# Altium integrated library Gagabiro_POC_amp.IntLib: 23 symbols
Pins are listed as number, name and electrical type; pins without a type are passive.

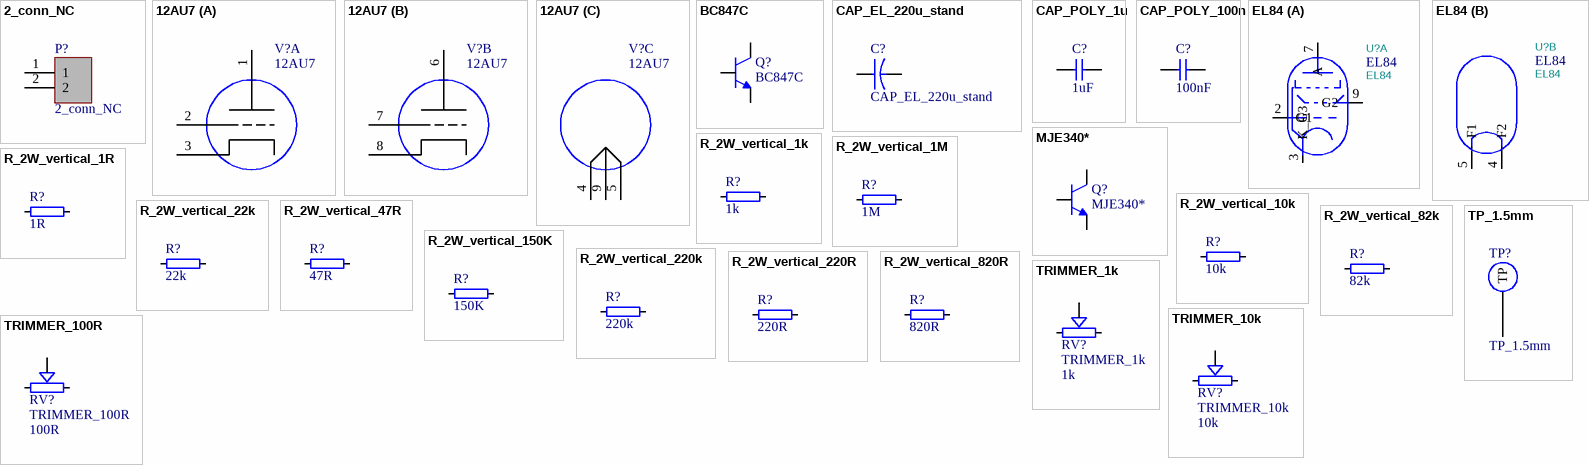
[diagram p0: symbols 2_conn_NC to TRIMMER_100R]

## 2_conn_NC
designator P?
Connector Header Surface Mount, Right Angle 2 position 0.079 (2.00mm); MP: S2B-PH-SM4-TB; MF: JST Sales; Price: None; Availability: In Stock; Package: None; Value: *; SnapEDA_Link: https://www.snapeda.com/parts/S2B-PH-SM4-TB/JST+Sales+America+Inc./view-part/?ref=snap; Purchase-URL: https://pricing.snapeda.com/search/part/S2B-PH-SM4-TB/?ref=eda; Check_prices: https://www.snapeda.com/parts/S2B-PH-SM4-TB/JST+Sales+America+Inc./view-part/?ref=eda
footprint 2_conn_NC
pins: 1, 2

## 12AU7
designator V?
TUNGSOL 12AU7 NEW PRD PREAMP TB; MF: RCA; MP: 12AX7; SnapEDA_Link: https://www.snapeda.com/parts/12AX7/RCA/view-part/?ref=snap; Package: None; Check_prices: https://www.snapeda.com/parts/12AX7/RCA/view-part/?ref=eda; Value: *
footprint 12A_7
part A pins: 1, 2, 3
part B pins: 6, 7, 8
part C pins: 4, 5, 9

## BC847C
designator Q?
Bipolar (BJT) Transistor NPN 45 V 100 mA 300MHz 250 mW Surface Mount SOT-23-3 (TO-236); MF: Diotec Semiconductor; Price: None; SnapEDA_Link: https://www.snapeda.com/parts/BC847C/Diotec/view-part/?ref=snap; Purchase-URL: https://pricing.snapeda.com/search/part/BC847C/?ref=eda; Availability: In Stock; MP: BC847C; Package: SOT-23-3 Diotec; Check_prices: https://www.snapeda.com/parts/BC847C/Diotec/view-part/?ref=eda; Value: *
footprint TRANS_BC847C
pins: 1 B, 2 E, 3 C

## CAP_EL_220u_stand
designator C?
220F 16V Aluminum Electrolytic Capacitors Radial, Can 1000 Hrs @ 105C; MP: EEU-HD1C221B; Value: 220uF; MF: Panasonic; Availability: In Stock; Purchase-URL: https://pricing.snapeda.com/search/part/EEU-HD1C221B/?ref=eda; Package: RADIAL-2 Panasonic; Check_prices: https://www.snapeda.com/parts/EEU-HD1C221B/Panasonic/view-part/?ref=eda; SnapEDA_Link: https://www.snapeda.com/parts/EEU-HD1C221B/Panasonic/view-part/?ref=snap; Price: None
footprint CAPPRD500W50D630H1120_stand
pins: N, P

## CAP_POLY_1u
designator C?, comment 1uF
Capacitor, Silver Mica; Part Number: CMICA_47PF; Value: 1uF
footprint CAP_panassonic_1u_450V
pins: 1, 2

## CAP_POLY_100n
designator C?, comment 100nF
Capacitor, Silver Mica; Part Number: CMICA_47PF; Value: 100nF
footprint CAP_panassonic_100n_450V
pins: 1, 2

## EL84
designator U?
Footprint: Valve:Valve_Noval_P; Value: EL84
footprint EL84
part A pins: 2 G1, 3 K_G3, 7 A, 9 G2
part B pins: 4 F2, 5 F1

## MJE340*
designator Q?
Bipolar (BJT) Transistor NPN 300 V 500 mA - 20.8 W Through Hole SOT-32-3; MF: STMicroelectronics; MP: MJE340; SnapEDA_Link: https://www.snapeda.com/parts/MJE340/STMicroelectronics/view-part/?ref=snap; Package: TO-126-3 Motorola; Value: *; Check_prices: https://www.snapeda.com/parts/MJE340/STMicroelectronics/view-part/?ref=eda
footprint TO126
pins: 1 E, 2 C, 3 B

## R_2W_vertical_1k
designator R?, comment 1k
Resistor, 2W; Part Number: R2W; ComponentLink1URL: N.A.; ComponentLink1Description: Datasheet; ComponentLink2URL: N.A.; ComponentLink2Description: Supplier link; Author: colombari; Value: 1k
footprint RES_2W_vertical
pins: 1, 2

## R_2W_vertical_1M
designator R?, comment 1M
Resistor, 2W; Part Number: R2W; ComponentLink1URL: N.A.; ComponentLink1Description: Datasheet; ComponentLink2URL: N.A.; ComponentLink2Description: Supplier link; Author: colombari; Value: 1M
footprint RES_2W_vertical
pins: 1, 2

## R_2W_vertical_1R
designator R?, comment 1R
Resistor, 2W; Part Number: R2W; ComponentLink1URL: N.A.; ComponentLink1Description: Datasheet; ComponentLink2URL: N.A.; ComponentLink2Description: Supplier link; Author: colombari; Value: 1R
footprint RES_2W_vertical
pins: 1, 2

## R_2W_vertical_10k
designator R?, comment 10k
Resistor, 2W; Part Number: R2W; ComponentLink1URL: N.A.; ComponentLink1Description: Datasheet; ComponentLink2URL: N.A.; ComponentLink2Description: Supplier link; Author: colombari; Value: 10k
footprint RES_2W_vertical
pins: 1, 2

## R_2W_vertical_22k
designator R?, comment 22k
Resistor, 2W; Part Number: R2W; ComponentLink1URL: N.A.; ComponentLink1Description: Datasheet; ComponentLink2URL: N.A.; ComponentLink2Description: Supplier link; Author: colombari; Value: 22k
footprint RES_2W_vertical
pins: 1, 2

## R_2W_vertical_47R
designator R?, comment 47R
Resistor, 2W; Part Number: R2W; ComponentLink1URL: N.A.; ComponentLink1Description: Datasheet; ComponentLink2URL: N.A.; ComponentLink2Description: Supplier link; Author: colombari; Value: 47R
footprint RES_2W_vertical
pins: 1, 2

## R_2W_vertical_82k
designator R?, comment 82k
Resistor, 2W; Part Number: R2W; ComponentLink1URL: N.A.; ComponentLink1Description: Datasheet; ComponentLink2URL: N.A.; ComponentLink2Description: Supplier link; Author: colombari; Value: 82k
footprint RES_2W_vertical
pins: 1, 2

## R_2W_vertical_150K
designator R?, comment 150K
Resistor, 2W; Part Number: R2W; ComponentLink1URL: N.A.; ComponentLink1Description: Datasheet; ComponentLink2URL: N.A.; ComponentLink2Description: Supplier link; Author: colombari; Value: 150K
footprint RES_2W_vertical
pins: 1, 2

## R_2W_vertical_220k
designator R?, comment 220k
Resistor, 2W; Part Number: R2W; ComponentLink1URL: N.A.; ComponentLink1Description: Datasheet; ComponentLink2URL: N.A.; ComponentLink2Description: Supplier link; Author: colombari; Value: 220k
footprint RES_2W_vertical
pins: 1, 2

## R_2W_vertical_220R
designator R?, comment 220R
Resistor, 2W; Part Number: R2W; ComponentLink1URL: N.A.; ComponentLink1Description: Datasheet; ComponentLink2URL: N.A.; ComponentLink2Description: Supplier link; Author: colombari; Value: 220R
footprint RES_2W_vertical
pins: 1, 2

## R_2W_vertical_820R
designator R?, comment 820R
Resistor, 2W; Part Number: R2W; ComponentLink1URL: N.A.; ComponentLink1Description: Datasheet; ComponentLink2URL: N.A.; ComponentLink2Description: Supplier link; Author: colombari; Value: 820R
footprint RES_2W_vertical
pins: 1, 2

## TP_1.5mm
designator TP?
footprint test_point_1.5mm
pins: 1 TP

## TRIMMER_1k
designator RV?  value 1k
TRIMMER; MF: Bourns Electronics; MP: PV36W204C01B00.; SnapEDA_Link: https://www.snapeda.com/parts/PV36W204C01B00./Bourns/view-part/?ref=snap; Package: None; Check_prices: https://www.snapeda.com/parts/PV36W204C01B00./Bourns/view-part/?ref=eda
footprint TRIM_PV36W204C01B00 - duplicate
pins: 1, 2, 3

## TRIMMER_10k
designator RV?  value 10k
TRIMMER; MF: Bourns Electronics; MP: PV36W204C01B00.; SnapEDA_Link: https://www.snapeda.com/parts/PV36W204C01B00./Bourns/view-part/?ref=snap; Package: None; Check_prices: https://www.snapeda.com/parts/PV36W204C01B00./Bourns/view-part/?ref=eda
footprint TRIM_PV36W204C01B00 - duplicate
pins: 1, 2, 3

## TRIMMER_100R
designator RV?  value 100R
TRIMMER; MF: Bourns Electronics; MP: PV36W204C01B00.; SnapEDA_Link: https://www.snapeda.com/parts/PV36W204C01B00./Bourns/view-part/?ref=snap; Package: None; Check_prices: https://www.snapeda.com/parts/PV36W204C01B00./Bourns/view-part/?ref=eda
footprint TRIM_PV36W204C01B00 - duplicate
pins: 1, 2, 3